# EAGLE library part BQ24125 (library Strawson_Eagle_Lib)
SINGLE-CHIP SWITCHMODE, LI-ION AND LI-POLYMER CHARGE-MANAGEMENT IC WITH ENHANCED EMI PERFORMANCE(bqSWITCHER) Source: www.ti.com .. TI-bq24125.pdf
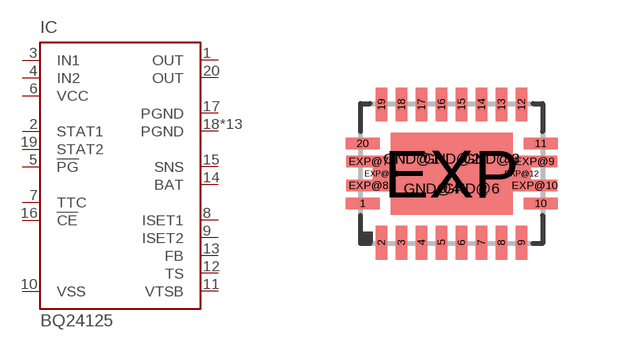
[diagram p16: symbol with the pads of QFN20_3,5X4,5; footprint QFN20_3,5X4,5]

Designator prefix IC

## BQ24125 (MPN: BQ24125RHLR; OC_FARNELL: 1536712; OC_NEWARK: 71M2021)  [QFN20_3,5X4,5]
1  OUT  out
2  STAT1  out
3  IN1  in
4  IN2  in
5  !PG  out
6  VCC  in
7  TTC  pas
8  ISET1
9  ISET2
10  VSS  pwr
11  VTSB  out
12  TS  in
13  FB  in
14  BAT  in
15  SNS  in
16  !CE  in
17  PGND  in
18  PGND  in
19  STAT2  out
20  OUT  in
EXP  PGND  in
EXP@7  PGND  in
EXP@8  PGND  in
EXP@9  PGND  in
EXP@10  PGND  in
EXP@11  PGND  in
EXP@12  PGND  in
GND@1  PGND  in
GND@2  PGND  in
GND@3  PGND  in
GND@4  PGND  in
GND@6  PGND  in

## Footprint QFN20_3,5X4,5 (pad centres in mm)
RHL (R-PQFP-N20) Set in DRC - Same Signals - SMD to SMD and SMD to PAD = 0. Source: www.ti.com .. TI-bq24125.pdf
smd 0.85 x 0.28: 1 -2.225,-0.75; 10 2.225,-0.75; 11 2.225,0.75; 20 -2.225,0.75
smd 0.28 x 0.85: 2 -1.75,-1.725; 3 -1.25,-1.725; 4 -0.75,-1.725; 5 -0.25,-1.725; 6 0.25,-1.725; 7 0.75,-1.725; 8 1.25,-1.725; 9 1.75,-1.725; 12 1.75,1.725; 13 1.25,1.725; 14 0.75,1.725; 15 0.25,1.725; 16 -0.25,1.725; 17 -0.75,1.725; 18 -1.25,1.725; 19 -1.75,1.725
smd 3.05 x 2.05: EXP 0,0
smd 1.125 x 0.28: EXP@7 -2.075,0.3; EXP@8 -2.075,-0.3; EXP@9 2.075,0.3; EXP@10 2.075,-0.3
smd 0.45 x 0.4: EXP@11 -1.75,0; EXP@12 1.75,0
drill 0.5 pad 0.3: GND@1 -1,0.373; GND@2 0,0.373; GND@3 1,0.373; GND@4 -0.492,-0.373; GND@6 0.492,-0.373